# EAGLE library part PLD_1X12 (library barthess)
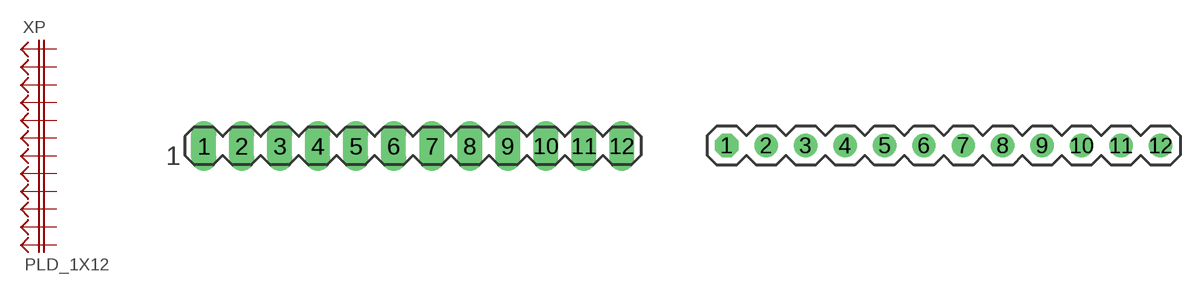
[diagram p25: symbol with the pads of PLD_1X12_LONGPAD; footprints PLD_1X12_LONGPAD, PLD_1X12]

Designator prefix XP

## PLD_1X12LONGPAD  [PLD_1X12_LONGPAD]
1  1  pas
2  2  pas
3  3  pas
4  4  pas
5  5  pas
6  6  pas
7  7  pas
8  8  pas
9  9  pas
10  10  pas
11  11  pas
12  12  pas

## PLD_1X12  [PLD_1X12]
Pads as for PLD_1X12_LONGPAD

## Footprint PLD_1X12_LONGPAD (pad centres in mm)
drill 1.118 long: 1 0,0; 2 2.54,0; 3 5.08,0; 4 7.62,0; 5 10.16,0; 6 12.7,0; 7 15.24,0; 8 17.78,0; 9 20.32,0; 10 22.86,0; 11 25.4,0; 12 27.94,0

## Footprint PLD_1X12 (pad centres in mm)
drill 1 octagon: 1 0,0
drill 1: 2 2.54,0; 3 5.08,0; 4 7.62,0; 5 10.16,0; 6 12.7,0; 7 15.24,0; 8 17.78,0; 9 20.32,0; 10 22.86,0; 11 25.4,0; 12 27.94,0